# Altium schematic symbol library Diodes.Schlib: 20 symbols
Pins are listed as number, name and electrical type; pins without a type are passive.

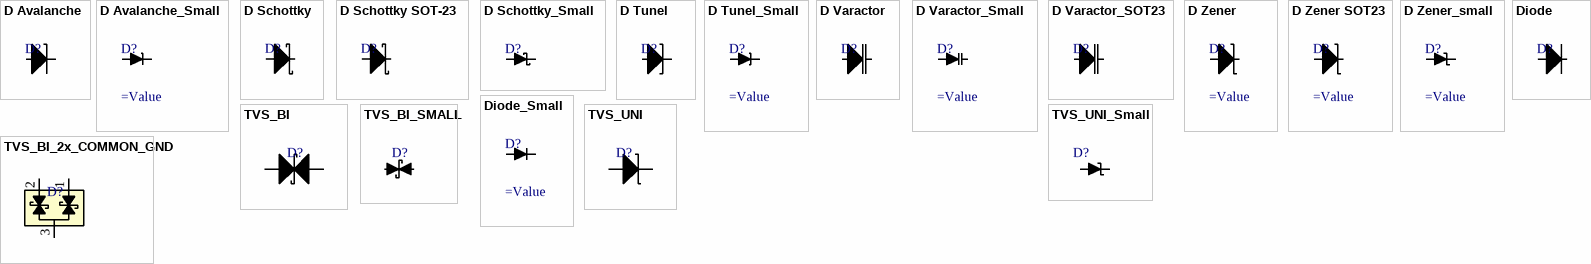
[diagram p0: symbols D Avalanche to TVS_UNI_Small]

## D Avalanche
designator D?
pins: 1 A, 2 K

## D Avalanche_Small
designator D?
pins: 1 A, 2 K

## D Schottky
designator D?
Schottky Diode
pins: 1 A, 2 K

## D Schottky SOT-23
designator D?
Schottky Diode
pins: 1 A, 3 K

## D Schottky_Small
designator D?
Schottky Diode
pins: 1 A, 2 K

## D Tunel
designator D?
pins: 1 A, 2 K

## D Tunel_Small
designator D?
pins: 1 A, 2 K

## D Varactor
designator D?
pins: 1 A, 2 K

## D Varactor_Small
designator D?
pins: 1 A, 2 K

## D Varactor_SOT23
designator D?
pins: 1 A, 3 K

## D Zener
designator D?
Zener Diode
pins: 1 A, 2 K

## D Zener SOT23
designator D?
Zener Diode
pins: 1 A, 3 K

## D Zener_small
designator D?
Zener Diode
pins: 1 A, 2 K

## Diode
designator D?
pins: 1 A, 2 K

## Diode_Small
designator D?
pins: 1 A, 2 K

## TVS_BI
designator D?
pins: 1, 2

## TVS_BI_2x_COMMON_GND
designator D?
pins: 1, 2, 3

## TVS_BI_SMALL
designator D?
pins: 1, 2

## TVS_UNI
designator D?
pins: 1 A, 2 K

## TVS_UNI_Small
designator D?
pins: 1 A, 2 K